# EAGLE library part ATTINY104 (library SyncChannelCustom)
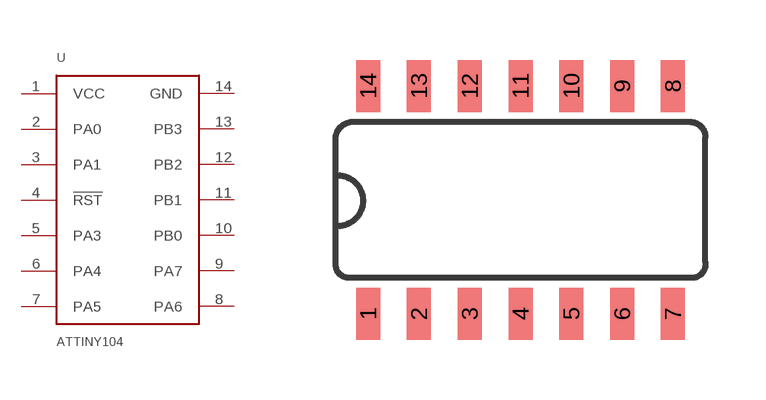
[diagram p6: symbol with the pads of SO14-NARROWPADS; footprint SO14-NARROWPADS]

Designator prefix U

## ATTINY104  [SO14-NARROWPADS]
1  VCC
2  PA0
3  PA1
4  !RST
5  PA3
6  PA4
7  PA5
8  PA6
9  PA7
10  PB0
11  PB1
12  PB2
13  PB3
14  GND

## Footprint SO14-NARROWPADS (pad centres in mm)
smd 0.6 x 1.3: 1 -3.81,-2.85; 2 -2.54,-2.85; 3 -1.27,-2.85; 4 0,-2.85; 5 1.27,-2.85; 6 2.54,-2.85; 7 3.81,-2.85; 8 3.81,2.85; 9 2.54,2.85; 10 1.27,2.85; 11 0,2.85; 12 -1.27,2.85; 13 -2.54,2.85; 14 -3.81,2.85